# EAGLE library part PTH_BBC_EDGE (library microbit)
TE CONNECTIVITY / AMP - BUCHSE, SCSI, VERTIKAL, 80 Source: Data sheet <http://www.tycoelectronics.com/commerce/DocumentDelivery/DDEController?Action=srchrtrv&DocNm=5749069&DocType=Customer+Drawing&DocLang=English>
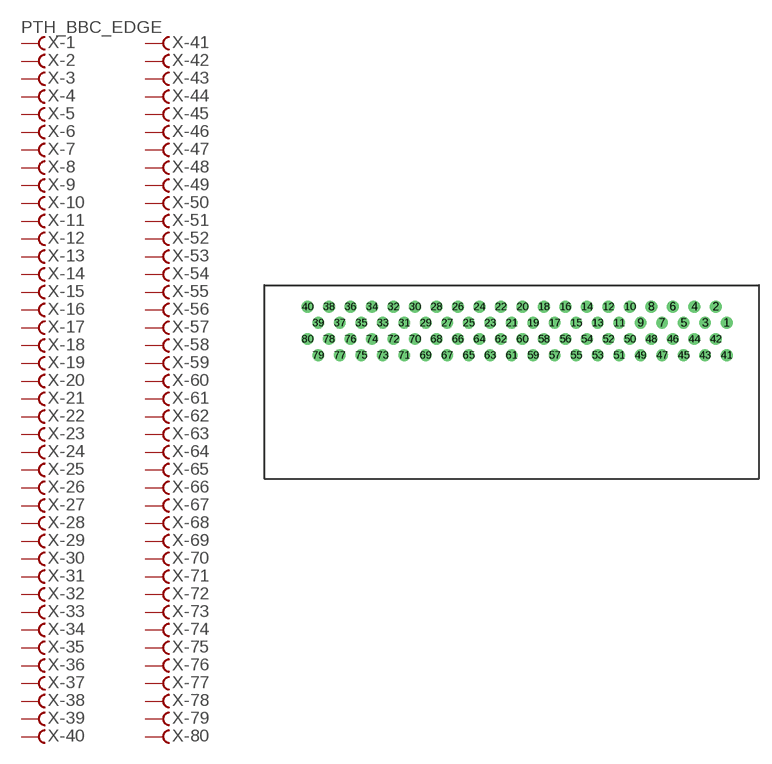
[diagram p1: symbol with the pads of PTH_BBC_EDGE; footprint PTH_BBC_EDGE]

Designator prefix X; gates -1=FV -2=F -3=F -4=F -5=F -6=F -7=F -8=F -9=F -10=F -11=F -12=F -13=F -14=F -15=F -16=F -17=F -18=F -19=F -20=F -21=F -22=F -23=F -24=F -25=F -26=F -27=F -28=F -29=F -30=F -31=F -32=F -33=F -34=F -35=F -36=F -37=F -38=F -39=F -40=F -41=F -42=F -43=F -44=F -45=F -46=F -47=F -48=F -49=F -50=F -51=F -52=F -53=F -54=F -55=F -56=F -57=F -58=F -59=F -60=F -61=F -62=F -63=F -64=F -65=F -66=F -67=F -68=F -69=F -70=F -71=F -72=F -73=F -74=F -75=F -76=F -77=F -78=F -79=F -80=F

## PTH_BBC_EDGE  [PTH_BBC_EDGE]
1  -1:F  pas
2  -2:F  pas
3  -3:F  pas
4  -4:F  pas
5  -5:F  pas
6  -6:F  pas
7  -7:F  pas
8  -8:F  pas
9  -9:F  pas
10  -10:F  pas
11  -11:F  pas
12  -12:F  pas
13  -13:F  pas
14  -14:F  pas
15  -15:F  pas
16  -16:F  pas
17  -17:F  pas
18  -18:F  pas
19  -19:F  pas
20  -20:F  pas
21  -21:F  pas
22  -22:F  pas
23  -23:F  pas
24  -24:F  pas
25  -25:F  pas
26  -26:F  pas
27  -27:F  pas
28  -28:F  pas
29  -29:F  pas
30  -30:F  pas
31  -31:F  pas
32  -32:F  pas
33  -33:F  pas
34  -34:F  pas
35  -35:F  pas
36  -36:F  pas
37  -37:F  pas
38  -38:F  pas
39  -39:F  pas
40  -40:F  pas
41  -41:F  pas
42  -42:F  pas
43  -43:F  pas
44  -44:F  pas
45  -45:F  pas
46  -46:F  pas
47  -47:F  pas
48  -48:F  pas
49  -49:F  pas
50  -50:F  pas
51  -51:F  pas
52  -52:F  pas
53  -53:F  pas
54  -54:F  pas
55  -55:F  pas
56  -56:F  pas
57  -57:F  pas
58  -58:F  pas
59  -59:F  pas
60  -60:F  pas
61  -61:F  pas
62  -62:F  pas
63  -63:F  pas
64  -64:F  pas
65  -65:F  pas
66  -66:F  pas
67  -67:F  pas
68  -68:F  pas
69  -69:F  pas
70  -70:F  pas
71  -71:F  pas
72  -72:F  pas
73  -73:F  pas
74  -74:F  pas
75  -75:F  pas
76  -76:F  pas
77  -77:F  pas
78  -78:F  pas
79  -79:F  pas
80  -80:F  pas

## Footprint PTH_BBC_EDGE (pad centres in mm)
BBC MicroBit Edge Connector.
drill 0.9 pad 1.27: 1 49.53,-1.905; 2 48.26,0.005; 3 46.99,-1.905; 4 45.72,0.005; 5 44.45,-1.905; 6 43.18,0.005; 7 41.91,-1.905; 8 40.64,0.005; 9 39.37,-1.905; 10 38.1,0.005; 11 36.83,-1.905; 12 35.56,0.005; 13 34.29,-1.905; 14 33.02,0.005; 15 31.75,-1.905; 16 30.48,0.005; 17 29.21,-1.905; 18 27.94,0.005; 19 26.67,-1.905; 20 25.4,0.005; 21 24.13,-1.905; 22 22.86,0.005; 23 21.59,-1.905; 24 20.32,0.005; 25 19.05,-1.905; 26 17.78,0.005; 27 16.51,-1.905; 28 15.24,0.005; 29 13.97,-1.905; 30 12.7,0.005; 31 11.43,-1.905; 32 10.16,0.005; 33 8.89,-1.905; 34 7.62,0.005; 35 6.35,-1.905; 36 5.08,0.005; 37 3.81,-1.905; 38 2.54,0.005; 39 1.27,-1.905; 40 0,0.005; 41 49.53,-5.724; 42 48.26,-3.814; 43 46.99,-5.724; 44 45.72,-3.814; 45 44.45,-5.724; 46 43.18,-3.814; 47 41.91,-5.724; 48 40.64,-3.814; 49 39.37,-5.724; 50 38.1,-3.814; 51 36.83,-5.724; 52 35.56,-3.814; 53 34.29,-5.724; 54 33.02,-3.814; 55 31.75,-5.724; 56 30.48,-3.814; 57 29.21,-5.724; 58 27.94,-3.814; 59 26.67,-5.724; 60 25.4,-3.814; 61 24.13,-5.724; 62 22.86,-3.814; 63 21.59,-5.724; 64 20.32,-3.814; 65 19.05,-5.724; 66 17.78,-3.814; 67 16.51,-5.724; 68 15.24,-3.814; 69 13.97,-5.724; 70 12.7,-3.814; 71 11.43,-5.724; 72 10.16,-3.814; 73 8.89,-5.724; 74 7.62,-3.814; 75 6.35,-5.724; 76 5.08,-3.814; 77 3.81,-5.724; 78 2.54,-3.814; 79 1.27,-5.724; 80 0,-3.814